# Altium schematic symbol library WE-UCF.SchLib: 11 symbols
Pins are listed as number, name and electrical type; pins without a type are passive.

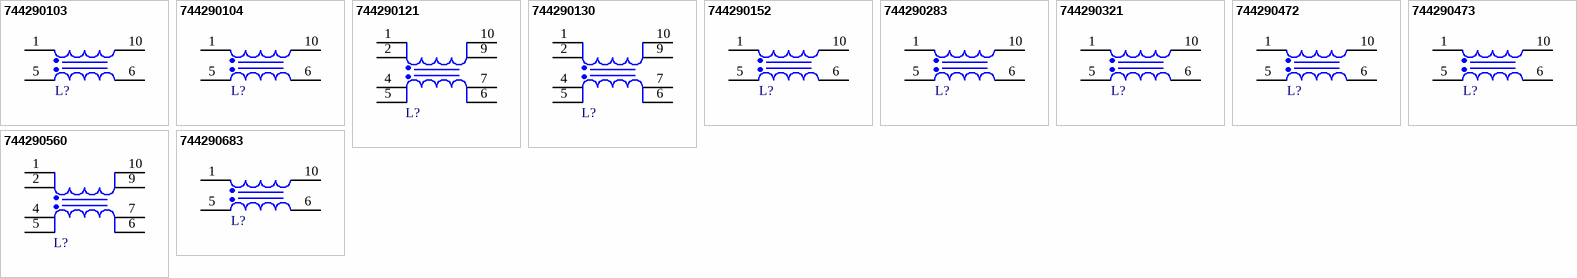
[diagram p0: symbols 744290103 to 744290683]

## 744290103
designator L?, comment 10mH  (value not drawn)
WE-UCF SMT Common Mode Line Filter, 10mH, 0.5A, 0.92Ohm; Manufacturer Part Number: 744290103; Manufacturer: Wurth Elektronik; Insulation Test Voltage: 500VAC; Leakage Inductance: 83000nH; Rated Voltage: 80V; Winding Style: sectional; ComponentLink1Description: Manufacturer Link; ComponentLink1URL: https://www.we-online.com/redexpert/article/744290103?ad; ComponentLink2Description: Datasheet; ComponentLink2URL: https://www.we-online.com/redexpert/spec/744290103?ad; Category: Common Mode Chokes; Match Code: WE-UCF; Mount: Surface Mount; Operating Temperature Max: 125°C; Operating Temperature Min: -40°C; Packaging: Tape and Reel; Length: 17.6mm; Width: 12.5mm; Height: 9.5mm; DC Resistance Max: 0.92Ohm; Inductance: 10mH; Rated Current: 0.5A
footprint WE-UCF_L17.6W12.5H9.5
pins: 1, 5, 6, 10

## 744290104
designator L?, comment 100mH  (value not drawn)
WE-UCF SMT Common Mode Line Filter, 100mH, 0.15A, 8.5Ohm; Manufacturer Part Number: 744290104; Manufacturer: Wurth Elektronik; Insulation Test Voltage: 500VAC; Leakage Inductance: 780000nH; Rated Voltage: 80V; Winding Style: sectional; ComponentLink1Description: Manufacturer Link; ComponentLink1URL: https://www.we-online.com/redexpert/article/744290104?ad; ComponentLink2Description: Datasheet; ComponentLink2URL: https://www.we-online.com/redexpert/spec/744290104?ad; Category: Common Mode Chokes; Match Code: WE-UCF; Mount: Surface Mount; Operating Temperature Max: 125°C; Operating Temperature Min: -40°C; Packaging: Tape and Reel; Length: 17.6mm; Width: 12.5mm; Height: 9.5mm; DC Resistance Max: 8.5Ohm; Inductance: 100mH; Rated Current: 0.15A
footprint WE-UCF_L17.6W12.5H9.5
pins: 1, 5, 6, 10

## 744290121
designator L?, comment 0.12mH  (value not drawn)
WE-UCF SMT Common Mode Line Filter, 0.12mH, 5.5A, 0.0105Ohm; Manufacturer Part Number: 744290121; Manufacturer: Wurth Elektronik; Insulation Test Voltage: 500VAC; Leakage Inductance: 680nH; Rated Voltage: 80V; Winding Style: sectional; ComponentLink1Description: Manufacturer Link; ComponentLink1URL: https://www.we-online.com/redexpert/article/744290121?ad; ComponentLink2Description: Datasheet; ComponentLink2URL: https://www.we-online.com/redexpert/spec/744290121?ad; Category: Common Mode Chokes; Match Code: WE-UCF; Mount: Surface Mount; Operating Temperature Max: 125°C; Operating Temperature Min: -40°C; Packaging: Tape and Reel; Length: 17.6mm; Width: 12.5mm; Height: 9.5mm; DC Resistance Max: 0.0105Ohm; Inductance: 0.12mH; Rated Current: 5.5A
footprint WE-UCF_L17.6W12.5H9.5
pins: 1, 2, 4, 5, 6, 7, 9, 10

## 744290130
designator L?, comment 0.013mH  (value not drawn)
WE-UCF SMT Common Mode Line Filter, 0.013mH, 10A, 0.0027Ohm; Manufacturer Part Number: 744290130; Manufacturer: Wurth Elektronik; Insulation Test Voltage: 500VAC; Leakage Inductance: 110nH; Rated Voltage: 80V; Winding Style: sectional; ComponentLink1Description: Manufacturer Link; ComponentLink1URL: https://www.we-online.com/redexpert/article/744290130?ad; ComponentLink2Description: Datasheet; ComponentLink2URL: https://www.we-online.com/redexpert/spec/744290130?ad; Category: Common Mode Chokes; Match Code: WE-UCF; Mount: Surface Mount; Operating Temperature Max: 125°C; Operating Temperature Min: -40°C; Packaging: Tape and Reel; Length: 17.6mm; Width: 12.5mm; Height: 9.5mm; DC Resistance Max: 0.0027Ohm; Inductance: 0.013mH; Rated Current: 10A
footprint WE-UCF_L17.6W12.5H9.5
pins: 1, 2, 4, 5, 6, 7, 9, 10

## 744290152
designator L?, comment 1.5mH  (value not drawn)
WE-UCF SMT Common Mode Line Filter, 1.5mH, 1.5A, 0.12Ohm; Manufacturer Part Number: 744290152; Manufacturer: Wurth Elektronik; Insulation Test Voltage: 500VAC; Leakage Inductance: 13000nH; Rated Voltage: 80V; Winding Style: sectional; ComponentLink1Description: Manufacturer Link; ComponentLink1URL: https://www.we-online.com/redexpert/article/744290152?ad; ComponentLink2Description: Datasheet; ComponentLink2URL: https://www.we-online.com/redexpert/spec/744290152?ad; Category: Common Mode Chokes; Match Code: WE-UCF; Mount: Surface Mount; Operating Temperature Max: 125°C; Operating Temperature Min: -40°C; Packaging: Tape and Reel; Length: 17.6mm; Width: 12.5mm; Height: 9.5mm; DC Resistance Max: 0.12Ohm; Inductance: 1.5mH; Rated Current: 1.5A
footprint WE-UCF_L17.6W12.5H9.5
pins: 1, 5, 6, 10

## 744290283
designator L?, comment 28mH  (value not drawn)
WE-UCF SMT Common Mode Line Filter, 28mH, 0.3A, 2.8Ohm; Manufacturer Part Number: 744290283; Manufacturer: Wurth Elektronik; Insulation Test Voltage: 500VAC; Leakage Inductance: 220000nH; Rated Voltage: 80V; Winding Style: sectional; ComponentLink1Description: Manufacturer Link; ComponentLink1URL: https://www.we-online.com/redexpert/article/744290283?ad; ComponentLink2Description: Datasheet; ComponentLink2URL: https://www.we-online.com/redexpert/spec/744290283?ad; Category: Common Mode Chokes; Match Code: WE-UCF; Mount: Surface Mount; Operating Temperature Max: 125°C; Operating Temperature Min: -40°C; Packaging: Tape and Reel; Length: 17.6mm; Width: 12.5mm; Height: 9.5mm; DC Resistance Max: 2.8Ohm; Inductance: 28mH; Rated Current: 0.3A
footprint WE-UCF_L17.6W12.5H9.5
pins: 1, 5, 6, 10

## 744290321
designator L?, comment 0.32mH  (value not drawn)
WE-UCF SMT Common Mode Line Filter, 0.32mH, 3.25A, 0.029Ohm; Manufacturer Part Number: 744290321; Manufacturer: Wurth Elektronik; Insulation Test Voltage: 500VAC; Leakage Inductance: 2200nH; Rated Voltage: 80V; Winding Style: sectional; ComponentLink1Description: Manufacturer Link; ComponentLink1URL: https://www.we-online.com/redexpert/article/744290321?ad; ComponentLink2Description: Datasheet; ComponentLink2URL: https://www.we-online.com/redexpert/spec/744290321?ad; Category: Common Mode Chokes; Match Code: WE-UCF; Mount: Surface Mount; Operating Temperature Max: 125°C; Operating Temperature Min: -40°C; Packaging: Tape and Reel; Length: 17.6mm; Width: 12.5mm; Height: 9.5mm; DC Resistance Max: 0.029Ohm; Inductance: 0.32mH; Rated Current: 3.25A
footprint WE-UCF_L17.6W12.5H9.5
pins: 1, 5, 6, 10

## 744290472
designator L?, comment 4.7mH  (value not drawn)
WE-UCF SMT Common Mode Line Filter, 4.7mH, 0.75A, 0.52Ohm; Manufacturer Part Number: 744290472; Manufacturer: Wurth Elektronik; Insulation Test Voltage: 500VAC; Leakage Inductance: 25000nH; Rated Voltage: 80V; Winding Style: sectional; ComponentLink1Description: Manufacturer Link; ComponentLink1URL: https://www.we-online.com/redexpert/article/744290472?ad; ComponentLink2Description: Datasheet; ComponentLink2URL: https://www.we-online.com/redexpert/spec/744290472?ad; Category: Common Mode Chokes; Match Code: WE-UCF; Mount: Surface Mount; Operating Temperature Max: 125°C; Operating Temperature Min: -40°C; Packaging: Tape and Reel; Length: 17.6mm; Width: 12.5mm; Height: 9.5mm; DC Resistance Max: 0.52Ohm; Inductance: 4.7mH; Rated Current: 0.75A
footprint WE-UCF_L17.6W12.5H9.5
pins: 1, 5, 6, 10

## 744290473
designator L?, comment 47mH  (value not drawn)
WE-UCF SMT Common Mode Line Filter, 47mH, 0.25A, 4Ohm; Manufacturer Part Number: 744290473; Manufacturer: Wurth Elektronik; Insulation Test Voltage: 500VAC; Leakage Inductance: 460000nH; Rated Voltage: 80V; Winding Style: sectional; ComponentLink1Description: Manufacturer Link; ComponentLink1URL: https://www.we-online.com/redexpert/article/744290473?ad; ComponentLink2Description: Datasheet; ComponentLink2URL: https://www.we-online.com/redexpert/spec/744290473?ad; Category: Common Mode Chokes; Match Code: WE-UCF; Mount: Surface Mount; Operating Temperature Max: 125°C; Operating Temperature Min: -40°C; Packaging: Tape and Reel; Length: 17.6mm; Width: 12.5mm; Height: 9.5mm; DC Resistance Max: 4Ohm; Inductance: 47mH; Rated Current: 0.25A
footprint WE-UCF_L17.6W12.5H9.5
pins: 1, 5, 6, 10

## 744290560
designator L?, comment 0.056mH  (value not drawn)
WE-UCF SMT Common Mode Line Filter, 0.056mH, 7A, 0.0047Ohm; Manufacturer Part Number: 744290560; Manufacturer: Wurth Elektronik; Insulation Test Voltage: 500VAC; Leakage Inductance: 330nH; Rated Voltage: 80V; Winding Style: sectional; ComponentLink1Description: Manufacturer Link; ComponentLink1URL: https://www.we-online.com/redexpert/article/744290560?ad; ComponentLink2Description: Datasheet; ComponentLink2URL: https://www.we-online.com/redexpert/spec/744290560?ad; Category: Common Mode Chokes; Match Code: WE-UCF; Mount: Surface Mount; Operating Temperature Max: 125°C; Operating Temperature Min: -40°C; Packaging: Tape and Reel; Length: 17.6mm; Width: 12.5mm; Height: 9.5mm; DC Resistance Max: 0.0047Ohm; Inductance: 0.056mH; Rated Current: 7A
footprint WE-UCF_L17.6W12.5H9.5
pins: 1, 2, 4, 5, 6, 7, 9, 10

## 744290683
designator L?, comment 68mH  (value not drawn)
WE-UCF SMT Common Mode Line Filter, 68mH, 0.2A, 5Ohm; Manufacturer Part Number: 744290683; Manufacturer: Wurth Elektronik; Insulation Test Voltage: 500VAC; Leakage Inductance: 960000nH; Rated Voltage: 80V; Winding Style: sectional; ComponentLink1Description: Manufacturer Link; ComponentLink1URL: https://www.we-online.com/redexpert/article/744290683?ad; ComponentLink2Description: Datasheet; ComponentLink2URL: https://www.we-online.com/redexpert/spec/744290683?ad; Category: Common Mode Chokes; Match Code: WE-UCF; Mount: Surface Mount; Operating Temperature Max: 125°C; Operating Temperature Min: -40°C; Packaging: Tape and Reel; Length: 17.6mm; Width: 12.5mm; Height: 9.5mm; DC Resistance Max: 5Ohm; Inductance: 68mH; Rated Current: 0.2A
footprint WE-UCF_L17.6W12.5H9.5
pins: 1, 5, 6, 10